# Altium integrated library LM358DG4.IntLib: 1 symbol
Pins are listed as number, name and electrical type; pins without a type are passive.

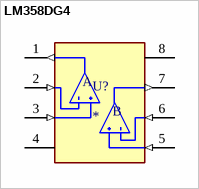
[diagram p0: symbol LM358DG4]

## LM358DG4
designator U?
Dual standard operational amplifier 8-SOIC 0 to 70; MP: LM358DG4; MF: Texas Instruments; Price: None; Availability: In Stock; Package: SOIC-8 Texas Instruments; Value: *; SnapEDA_Link: https://www.snapeda.com/parts/LM358DG4/Texas+Instruments/view-part/?ref=snap; Purchase-URL: https://pricing.snapeda.com/search/part/LM358DG4/?ref=eda; Check_prices: https://www.snapeda.com/parts/LM358DG4/Texas+Instruments/view-part/?ref=eda
footprint SOIC127P599X175-8N
pins: 1 OUT1 (out), 2 IN1- (in), 3 IN1+ (in), 4 V- (power), 5 IN2+ (in), 6 IN2- (in), 7 OUT2 (out), 8 V+ (power)
text: A; B